# Altium footprint library 532611371.PcbLib: 3 footprints
Each footprint in its own frame and in the unit in brackets; x right, y up, seen from the top. Pads: shape width x height; smd on the part's side, far side on the other; paste and mask are expansions set on the pad; w line width, h text height; cw(c..) or ccw(c..) is an arc to the next point about the centre after c.
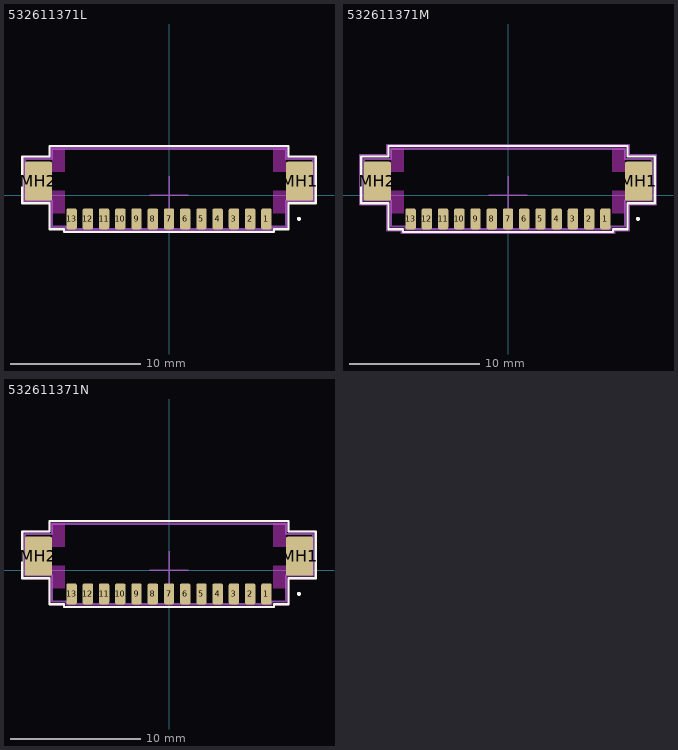
[diagram p0: the footprints below, top view; thin cyan lines are the x and y axes]

## 532611371L [mm] "Molex PicoBlade 13-Pin Right-Angle Connector with Tin Coating"
height 3.4
pads (15):
  rrect31% 0.8x1.6 smd: 1(7.5,-1.8) 2(6.25,-1.8) 3(5,-1.8) 4(3.75,-1.8) 5(2.5,-1.8) 6(1.25,-1.8) 7(0,-1.8) 8(-1.25,-1.8) 9(-2.5,-1.8) 10(-3.75,-1.8) 11(-5,-1.8) 12(-6.25,-1.8) 13(-7.5,-1.8)
  rrect12% 2.1x3 smd: MH1(10.05,1.1) MH2(-10.05,1.1)
Top Layer keep-out:
  rectangle: -9,3.6 -8,1.8
  rectangle: 9,3.6 8,1.8
  rectangle: -9,-1.4 -8,0.4
  rectangle: 9,-1.4 8,0.4
Top Overlay:
  circle w0.16: c10,-1.8 r0.08
  lines w0.16: -11.3,-0.6 -9.2,-0.6 -9.2,-2.6 -8.1,-2.6 -8.1,-2.8 8.1,-2.8 8.1,-2.6 9.2,-2.6 9.2,-0.6 11.3,-0.6 11.3,3 9.2,3 9.2,3.8 -9.2,3.8 -9.2,3 -11.3,3 -11.3,-0.6
Top Component Center:
  lines w0.1: -1.5,0 1.5,0 ; 0,-1.5 0,1.5
Top Courtyard:
  lines w0.16: -11.2,-0.5 -9.1,-0.5 -9.1,-2.5 -8,-2.5 -8,-2.7 8,-2.7 8,-2.5 9.1,-2.5 9.1,-0.5 11.2,-0.5 11.2,2.9 9.1,2.9 9.1,3.7 -9.1,3.7 -9.1,2.9 -11.2,2.9 -11.2,-0.5
Top Assembly:
  lines w0.16: -11.1,-0.4 -9,-0.4 -9,-2.4 -7.9,-2.4 -7.9,-2.6 7.9,-2.6 7.9,-2.4 9,-2.4 9,-0.4 11.1,-0.4 11.1,2.8 9,2.8 9,3.6 -9,3.6 -9,2.8 -11.1,2.8 -11.1,-0.4
3D body "532611371L.STEP": height 3.4, standoff 0, extent -10.7,-2 10.7,3.2

## 532611371M [mm] "Molex PicoBlade 13-Pin Right-Angle Connector with Tin Coating"
height 3.4
pads (15):
  rrect31% 0.8x1.6 smd: 1(7.5,-1.8) 2(6.25,-1.8) 3(5,-1.8) 4(3.75,-1.8) 5(2.5,-1.8) 6(1.25,-1.8) 7(0,-1.8) 8(-1.25,-1.8) 9(-2.5,-1.8) 10(-3.75,-1.8) 11(-5,-1.8) 12(-6.25,-1.8) 13(-7.5,-1.8)
  rrect12% 2.1x3 smd: MH1(10.05,1.1) MH2(-10.05,1.1)
Top Layer keep-out:
  rectangle: -9,3.6 -8,1.8
  rectangle: 9,3.6 8,1.8
  rectangle: -9,-1.4 -8,0.4
  rectangle: 9,-1.4 8,0.4
Top Overlay:
  circle w0.16: c10,-1.8 r0.08
  lines w0.16: -11.3,-0.6 -9.2,-0.6 -9.2,-2.6 -8.1,-2.6 -8.1,-2.8 8.1,-2.8 8.1,-2.6 9.2,-2.6 9.2,-0.6 11.3,-0.6 11.3,3 9.2,3 9.2,3.8 -9.2,3.8 -9.2,3 -11.3,3 -11.3,-0.6
Top Component Center:
  lines w0.1: -1.5,0 1.5,0 ; 0,-1.5 0,1.5
Top Courtyard:
  lines w0.16: -11.4,-0.7 -9.3,-0.7 -9.3,-2.7 -8.2,-2.7 -8.2,-2.9 8.2,-2.9 8.2,-2.7 9.3,-2.7 9.3,-0.7 11.4,-0.7 11.4,3.1 9.3,3.1 9.3,3.9 -9.3,3.9 -9.3,3.1 -11.4,3.1 -11.4,-0.7
Top Assembly:
  lines w0.16: -11.1,-0.4 -9,-0.4 -9,-2.4 -7.9,-2.4 -7.9,-2.6 7.9,-2.6 7.9,-2.4 9,-2.4 9,-0.4 11.1,-0.4 11.1,2.8 9,2.8 9,3.6 -9,3.6 -9,2.8 -11.1,2.8 -11.1,-0.4
3D body "532611371M.STEP": height 3.4, standoff 0, extent -10.7,-2 10.7,3.2

## 532611371N [mm] "Molex PicoBlade 13-Pin Right-Angle Connector with Tin Coating"
height 3.4
pads (15):
  rrect31% 0.8x1.6 smd: 1(7.5,-1.8) 2(6.25,-1.8) 3(5,-1.8) 4(3.75,-1.8) 5(2.5,-1.8) 6(1.25,-1.8) 7(0,-1.8) 8(-1.25,-1.8) 9(-2.5,-1.8) 10(-3.75,-1.8) 11(-5,-1.8) 12(-6.25,-1.8) 13(-7.5,-1.8)
  rrect12% 2.1x3 smd: MH1(10.05,1.1) MH2(-10.05,1.1)
Top Layer keep-out:
  rectangle: -9,3.6 -8,1.8
  rectangle: 9,3.6 8,1.8
  rectangle: -9,-1.4 -8,0.4
  rectangle: 9,-1.4 8,0.4
Top Overlay:
  circle w0.16: c10,-1.8 r0.08
  lines w0.16: -11.3,-0.6 -9.2,-0.6 -9.2,-2.6 -8.1,-2.6 -8.1,-2.8 8.1,-2.8 8.1,-2.6 9.2,-2.6 9.2,-0.6 11.3,-0.6 11.3,3 9.2,3 9.2,3.8 -9.2,3.8 -9.2,3 -11.3,3 -11.3,-0.6
Top Component Center:
  lines w0.1: -1.5,0 1.5,0 ; 0,-1.5 0,1.5
Top Courtyard:
  lines w0.16: -11.3,-0.6 -9.2,-0.6 -9.2,-2.6 -8.1,-2.6 -8.1,-2.8 8.1,-2.8 8.1,-2.6 9.2,-2.6 9.2,-0.6 11.3,-0.6 11.3,3 9.2,3 9.2,3.8 -9.2,3.8 -9.2,3 -11.3,3 -11.3,-0.6
Top Assembly:
  lines w0.16: -11.1,-0.4 -9,-0.4 -9,-2.4 -7.9,-2.4 -7.9,-2.6 7.9,-2.6 7.9,-2.4 9,-2.4 9,-0.4 11.1,-0.4 11.1,2.8 9,2.8 9,3.6 -9,3.6 -9,2.8 -11.1,2.8 -11.1,-0.4
3D body "532611371N.STEP": height 3.4, standoff 0, extent -10.7,-2 10.7,3.2